# Altium footprint library XT90PW-M.PcbLib: 1 footprints
Each footprint in its own frame and in the unit in brackets; x right, y up, seen from the top. Pads: shape width x height; smd on the part's side, far side on the other; paste and mask are expansions set on the pad; w line width, h text height; cw(c..) or ccw(c..) is an arc to the next point about the centre after c.
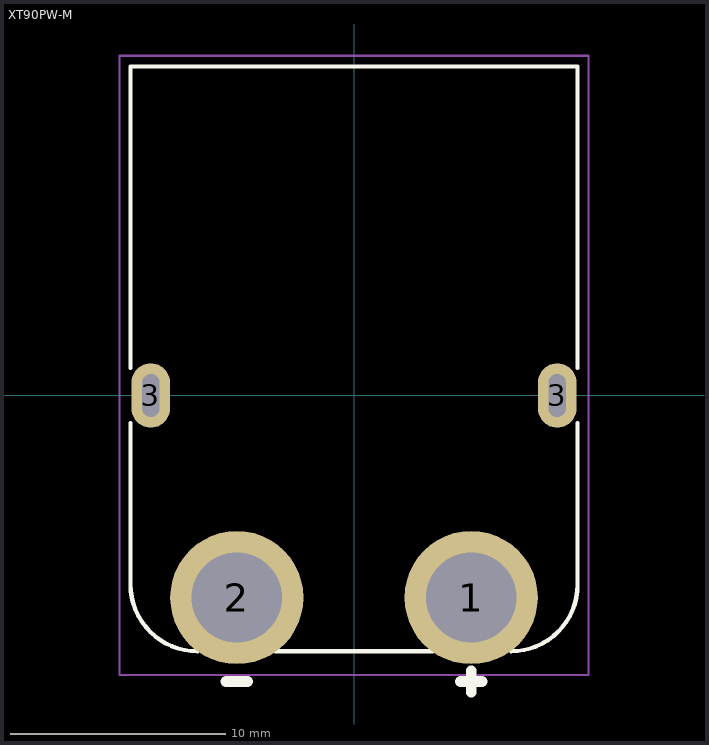
[diagram p0: the footprint, top view; thin cyan lines are the x and y axes]

## XT90PW-M [mm]
pads (4):
  round 6.2 hole 4.2: 1(5.45,-9.4) 2(-5.45,-9.4)
  rrect100% 1.8x3 hole 0.8 slot 2 at 90 deg: 3(-9.45,0) 3(9.45,0)
Top Overlay:
  lines w0.2: -10.4,-8.801 -10.4,-1.275 ; -10.4,-8.775 ccw(c-7.275,-8.775) -7.275,-11.9 ; -10.4,1.275 -10.4,15.3 10.4,15.3 10.4,1.275 ; -3.65,-11.9 3.65,-11.9 ; 7.301,-11.9 ccw(c7.301,-8.801) 10.4,-8.801 10.4,-1.275
  lines w0.5: -5.95,-13.3 -4.95,-13.3 ; 4.95,-13.3 5.95,-13.3 ; 5.45,-13.8 5.45,-12.8
Top Courtyard:
  lines w0.1: -10.9,-13 -5.5,-13 10.9,-13 10.9,15.8 -10.9,15.8 -10.9,-13
3D body "SPCXT90MW.STEP": height 9.8, standoff -3.1, extent -10.4,-11.9 10.4,15.3